# Altium footprint library 0805.PcbLib: 3 footprints
Each footprint in its own frame and in the unit in brackets; x right, y up, seen from the top. Pads: shape width x height; smd on the part's side, far side on the other; paste and mask are expansions set on the pad; w line width, h text height; cw(c..) or ccw(c..) is an arc to the next point about the centre after c.
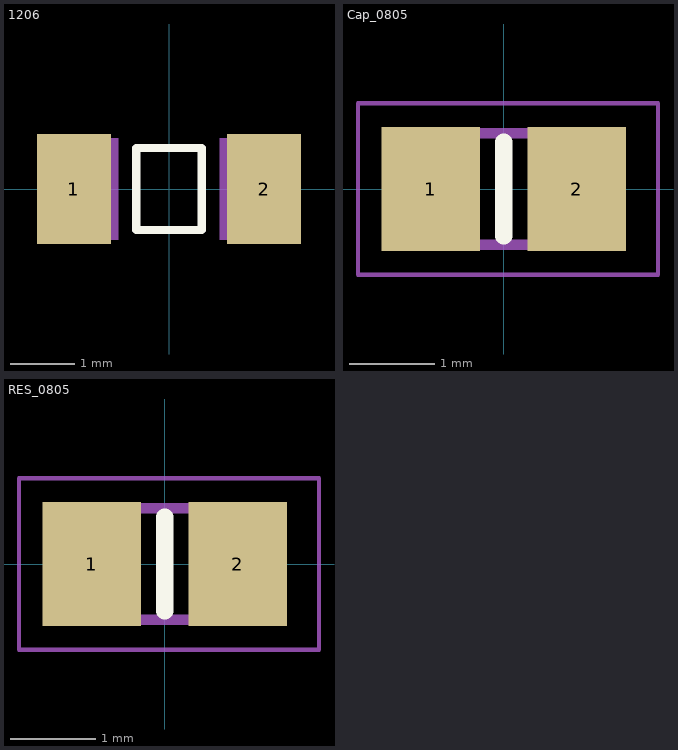
[diagram p0: the footprints below, top view; thin cyan lines are the x and y axes]

## 1206 [mil]
pads (2):
  rect 45x67 smd: 1(-58,0) 2(58,0)
Top Overlay:
  lines w5: -20,-25 -20,25 20,25 20,-25 -20,-25
Mechanical 13:
  region: 51,-31 31,-31 31,31 51,31
  region: -31,-31 -51,-31 -51,31 -31,31

## Cap_0805 [mm]
pads (2):
  rect 1.15x1.45 smd: 1(-0.85,0) 2(0.85,0)
Top Overlay:
  lines w0.2: 0,-0.55 0,0.55
Mechanical 13:
  lines w0.127: -0.95,-0.65 -0.95,0.65 1.05,0.65 1.05,-0.65 -0.95,-0.65
Mechanical 15:
  lines w0.05: -1.7,-1 -1.7,1 1.8,1 1.8,-1 -1.7,-1
3D body "step_temp.STEP": height 0.94, standoff 0, extent -0.955,-0.6 1.055,0.65

## RES_0805 [mm]
pads (2):
  rect 1.15x1.45 smd: 1(-0.85,0) 2(0.85,0)
Top Overlay:
  lines w0.2: 0,-0.55 0,0.55
Mechanical 13:
  lines w0.127: -0.95,-0.65 -0.95,0.65 1.05,0.65 1.05,-0.65 -0.95,-0.65
Mechanical 15:
  lines w0.05: -1.7,-1 -1.7,1 1.8,1 1.8,-1 -1.7,-1
3D body "STEP_AP214_SMD resistor 0805 (Imperial Size Code) - base model (no value).stp": height 0.51, standoff 0, extent -0.966,-0.635 1.034,0.615